# Altium schematic symbol library COM-14608.SCHLIB: 1 symbol
Pins are listed as number, name and electrical type; pins without a type are passive.

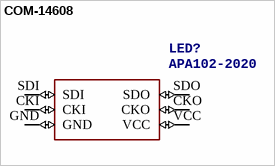
[diagram p0: symbol COM-14608]

## COM-14608
designator LED?, comment APA102-2020
Manufacturer_Name: SparkFun; Manufacturer_Part_Number: COM-14608; Mouser_Part_Number: 474-COM-14608; Mouser_Price-Stock: https://www.mouser.com/Search/Refine.aspx?Keyword=474-COM-14608; Height: 1mm
footprint SON75P200X200X100-6N
pins: CKI (io), CKO (io), GND (io), SDI (io), SDO (io), VCC (io)